# EAGLE library part C.H.I.P.-HEADER (library C.H.I.P)
Pin headers for mating with C.H.I.P. https://www.nextthing.co/
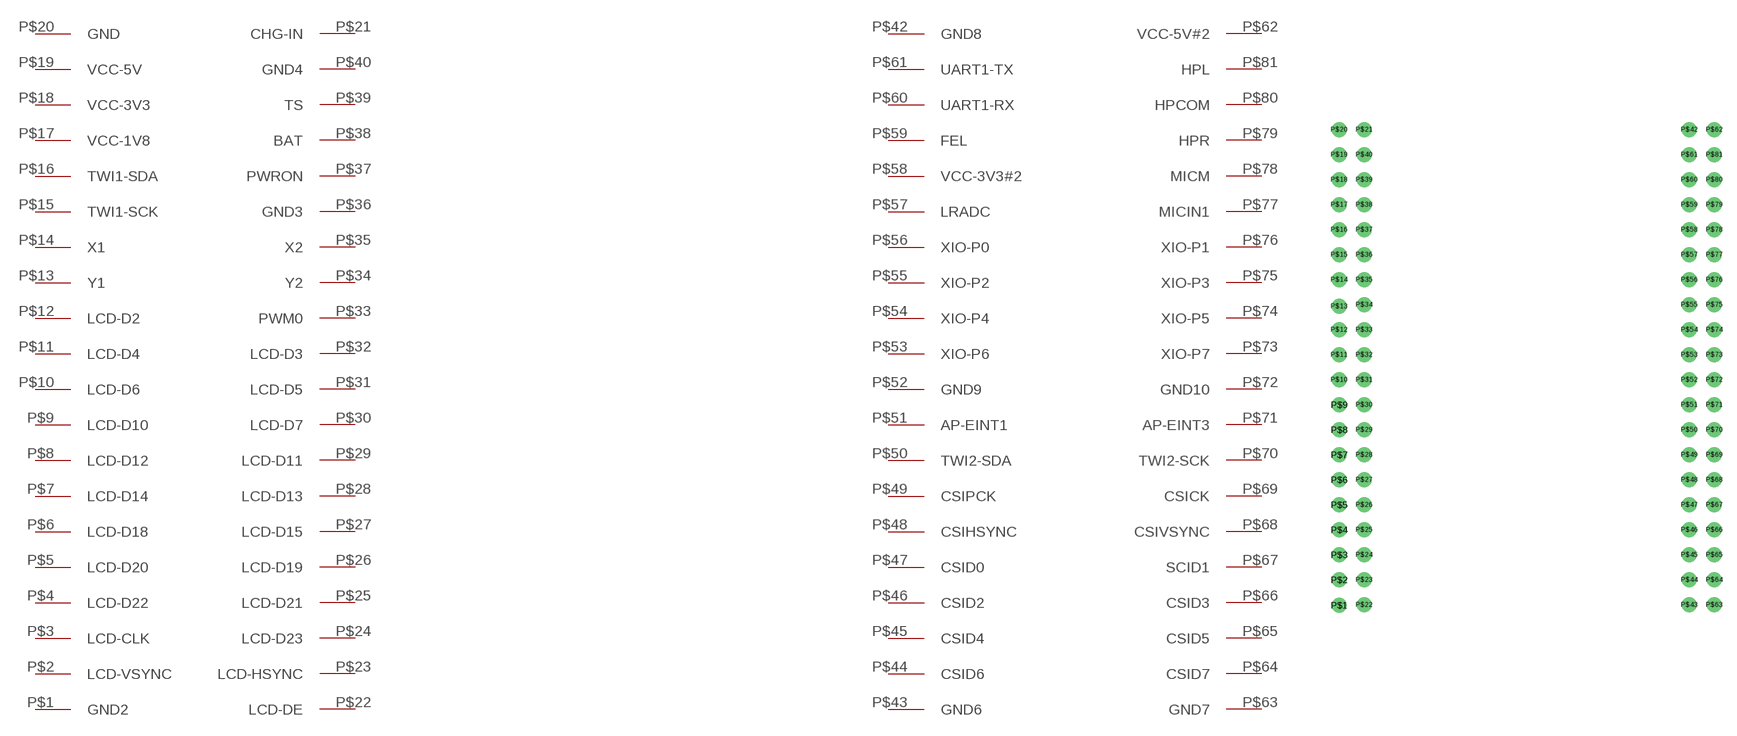
[diagram p0: symbol with the pads of C.H.I.P-HEADER; footprint C.H.I.P-HEADER]

Designator prefix -

## C.H.I.P.-HEADER  [C.H.I.P-HEADER]
P$1  GND2
P$2  LCD-VSYNC
P$3  LCD-CLK
P$4  LCD-D22
P$5  LCD-D20
P$6  LCD-D18
P$7  LCD-D14
P$8  LCD-D12
P$9  LCD-D10
P$10  LCD-D6
P$11  LCD-D4
P$12  LCD-D2
P$13  Y1
P$14  X1
P$15  TWI1-SCK
P$16  TWI1-SDA
P$17  VCC-1V8  pwr
P$18  VCC-3V3  pwr
P$19  VCC-5V  pwr
P$20  GND
P$21  CHG-IN
P$22  LCD-DE
P$23  LCD-HSYNC
P$24  LCD-D23
P$25  LCD-D21
P$26  LCD-D19
P$27  LCD-D15
P$28  LCD-D13
P$29  LCD-D11
P$30  LCD-D7
P$31  LCD-D5
P$32  LCD-D3
P$33  PWM0
P$34  Y2
P$35  X2
P$36  GND3
P$37  PWRON
P$38  BAT
P$39  TS
P$40  GND4
P$42  GND8
P$43  GND6
P$44  CSID6
P$45  CSID4
P$46  CSID2
P$47  CSID0
P$48  CSIHSYNC
P$49  CSIPCK
P$50  TWI2-SDA
P$51  AP-EINT1
P$52  GND9
P$53  XIO-P6
P$54  XIO-P4
P$55  XIO-P2
P$56  XIO-P0
P$57  LRADC
P$58  VCC-3V3#2
P$59  FEL
P$60  UART1-RX
P$61  UART1-TX
P$62  VCC-5V#2
P$63  GND7
P$64  CSID7
P$65  CSID5
P$66  CSID3
P$67  SCID1
P$68  CSIVSYNC
P$69  CSICK
P$70  TWI2-SCK
P$71  AP-EINT3
P$72  GND10
P$73  XIO-P7
P$74  XIO-P5
P$75  XIO-P3
P$76  XIO-P1
P$77  MICIN1
P$78  MICM
P$79  HPR
P$80  HPCOM
P$81  HPL

## Footprint C.H.I.P-HEADER (pad centres in mm)
Daughter header board also called DIP for std C.H.I.P <stephane.renouard@gmail.com> https://github.com/StephaneRenouard
drill 1: P$1 1.471,1.309; P$2 1.471,3.889; P$3 1.471,6.429; P$4 1.471,8.969; P$5 1.471,11.509; P$6 1.471,14.049; P$7 1.471,16.589; P$8 1.471,19.129; P$9 1.471,21.669; P$10 1.471,24.209; P$11 1.471,26.749; P$12 1.471,29.289; P$13 1.471,31.669; P$14 1.471,34.369; P$15 1.471,36.909; P$16 1.471,39.449; P$17 1.471,41.989; P$18 1.471,44.529; P$19 1.471,47.069; P$20 1.471,49.609; P$21 4.011,49.609; P$22 4.011,1.349; P$23 4.011,3.889; P$24 4.011,6.429; P$25 4.011,8.969; P$26 4.011,11.509; P$27 4.011,14.049; P$28 4.011,16.589; P$29 4.011,19.129; P$30 4.011,21.669; P$31 4.011,24.209; P$32 4.011,26.749; P$33 4.011,29.289; P$34 4.011,31.829; P$35 4.011,34.369; P$36 4.011,36.909; P$37 4.011,39.449; P$38 4.011,41.989; P$39 4.011,44.529; P$40 4.011,47.069; P$42 37.031,49.609; P$43 37.031,1.349; P$44 37.031,3.889; P$45 37.031,6.429; P$46 37.031,8.969; P$47 37.031,11.509; P$48 37.031,14.049; P$49 37.031,16.589; P$50 37.031,19.129; P$51 37.031,21.669; P$52 37.031,24.209; P$53 37.031,26.749; P$54 37.031,29.289; P$55 37.031,31.829; P$56 37.031,34.369; P$57 37.031,36.909; P$58 37.031,39.449; P$59 37.031,41.989; P$60 37.031,44.529; P$61 37.031,47.069; P$62 39.571,49.609; P$63 39.571,1.349; P$64 39.571,3.889; P$65 39.571,6.429; P$66 39.571,8.969; P$67 39.571,11.509; P$68 39.571,14.049; P$69 39.571,16.589; P$70 39.571,19.129; P$71 39.571,21.669; P$72 39.571,24.209; P$73 39.571,26.749; P$74 39.571,29.289; P$75 39.571,31.829; P$76 39.571,34.369; P$77 39.571,36.909; P$78 39.571,39.449; P$79 39.571,41.989; P$80 39.571,44.529; P$81 39.571,47.069